# Altium footprint library SamacSys.PcbLib: 5 footprints
Each footprint in its own frame and in the unit in brackets; x right, y up, seen from the top. Pads: shape width x height; smd on the part's side, far side on the other; paste and mask are expansions set on the pad; w line width, h text height; cw(c..) or ccw(c..) is an arc to the next point about the centre after c.
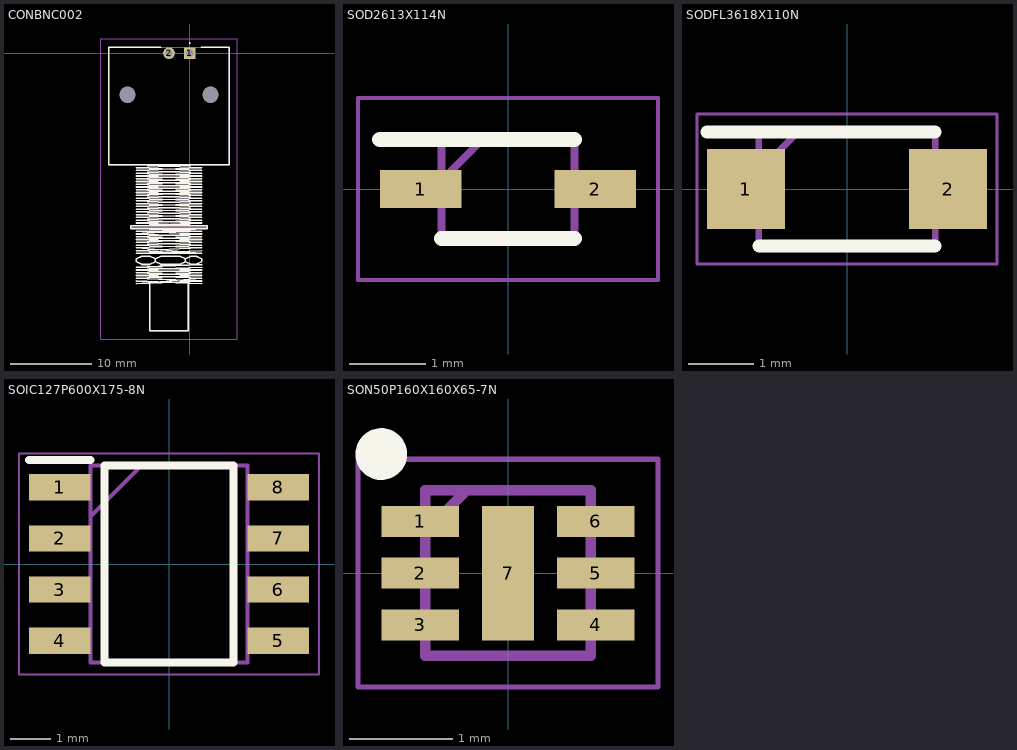
[diagram p0: the footprints below, top view; thin cyan lines are the x and y axes]

## CONBNC002 [mm]
pads (4):
  rect 1.446x1.446 hole 0.89: 1(0,0)
  round 1.446 hole 0.89: 2(-2.54,0)
  round 1 hole 2 unplated: MH1(-7.62,-5.08) MH2(2.54,-5.08)
Top Overlay:
  lines w0.1: 0,1.2 cw(c0,1.25) 0,1.3 cw(c0,1.25) 0,1.2
  lines w0.2: -6.54,-21.442 1.46,-21.78 -6.54,-21.78 1.46,-22.118 -6.54,-22.457 1.46,-22.795 -6.54,-23.133 1.46,-23.472 -6.54,-23.81 1.46,-24.487 ; -6.54,-13.66 1.46,-13.998 -6.54,-14.337 1.46,-14.675 -6.54,-15.013 1.46,-15.352 -6.54,-15.69 1.46,-16.028 -6.54,-16.367 1.46,-16.705 -6.54,-17.043 1.46,-17.382 -6.54,-17.72 1.46,-18.058 -6.54,-18.397 1.46,-18.735 -6.54,-19.073 1.46,-19.412 -6.54,-19.75 1.46,-20.088 -6.54,-20.427 1.46,-20.765 -6.207,-21.103 ; -4.873,-28.208 -4.873,-33.96 -0.207,-33.96 -0.207,-28.208 ; -3.54,0.74 -9.915,0.74 -9.915,-13.66 4.835,-13.66 4.835,0.74 1.393,0.74 ; 1.46,-26.178 -6.54,-26.517 1.46,-26.855 -6.54,-27.193 1.46,-27.532 -6.54,-28.208 1.46,-27.87 -6.54,-27.532 1.46,-27.193 -6.54,-26.855 1.46,-26.517 -6.54,-26.178 1.46,-25.84 ; 1.46,-24.148 -6.54,-24.487 1.46,-24.487 ; 1.46,-21.442 -6.54,-22.118 1.46,-22.457 -6.54,-22.795 1.46,-23.133 -6.54,-23.472 1.46,-23.81 -6.54,-24.148 1.46,-24.487 ; 1.46,-21.103 -6.54,-20.765 1.46,-20.427 -6.54,-20.088 1.46,-19.75 -6.54,-19.412 1.46,-19.073 -6.54,-18.735 1.46,-18.397 -6.54,-18.058 1.46,-17.72 -6.54,-17.382 1.46,-17.043 -6.54,-16.705 1.46,-16.367 -6.54,-16.028 1.46,-15.69 -6.54,-15.352 1.46,-15.013 -6.54,-14.675 1.46,-14.337 -6.54,-13.998 1.46,-13.66 ; -6.207,-21.103 -7.207,-21.103 -7.207,-21.442 2.127,-21.442 2.127,-21.103 -6.207,-21.103 ; -4.207,-25.502 -4.207,-25.163 ; -4.207,-25.502 -3.54,-25.84 -1.207,-25.84 -0.54,-25.502 ; -4.207,-25.502 -4.873,-25.84 -5.873,-25.84 -6.54,-25.502 -6.54,-25.163 -5.873,-24.825 -4.873,-24.825 -4.207,-25.163 ; -4.207,-25.163 -3.54,-24.825 -1.207,-24.825 -0.54,-25.163 ; -0.54,-25.502 -0.54,-25.163 ; -0.54,-25.502 0.127,-25.84 0.793,-25.84 1.46,-25.502 1.46,-25.163 0.793,-24.825 0.127,-24.825 -0.54,-25.163 ; -6.54,-27.87 1.46,-28.208 -6.54,-27.87
Mechanical 13:
  lines w0.1: -6.54,-13.66 1.46,-13.998 -6.54,-14.337 1.46,-14.675 -6.54,-15.013 1.46,-15.352 -6.54,-15.69 1.46,-16.028 -6.54,-16.367 1.46,-16.705 -6.54,-17.043 1.46,-17.382 -6.54,-17.72 1.46,-18.058 -6.54,-18.397 1.46,-18.735 -6.54,-19.073 1.46,-19.412 -6.54,-19.75 1.46,-20.088 -6.54,-20.427 1.46,-20.765 -6.207,-21.103 ; -4.873,-28.208 -4.873,-33.96 -0.207,-33.96 -0.207,-28.208 ; -3.54,-21.103 2.127,-21.103 2.127,-21.442 -7.207,-21.442 -7.207,-21.103 1.46,-21.103 -6.54,-20.765 1.46,-20.427 -6.54,-20.088 1.46,-19.75 -6.54,-19.412 1.46,-19.073 -6.54,-18.735 1.46,-18.397 -6.54,-18.058 1.46,-17.72 -6.54,-17.382 1.46,-17.043 -6.54,-16.705 1.46,-16.367 -6.54,-16.028 1.46,-15.69 -6.54,-15.352 1.46,-15.013 -6.54,-14.675 1.46,-14.337 -6.54,-13.998 1.46,-13.66 ; -9.915,-13.66 4.835,-13.66 4.835,0.74 -9.915,0.74 -9.915,-13.66
Mechanical 15:
  lines w0.1: -10.915,-34.96 5.835,-34.96 5.835,1.74 -10.915,1.74 -10.915,-34.96
3D body "CONBNC002.stp": height 14.73, standoff -4.4, extent -10.54,-34.47 5.36,0.73

## SOD2613X114N [mm]
pads (2):
  rect 1.075x0.5 smd: 1(-1.15,0) 2(1.15,0)
Top Overlay:
  lines w0.2: -1.688,0.65 0.875,0.65 ; -0.875,-0.65 0.875,-0.65
Mechanical 13:
  lines w0.1: -0.875,0.112 -0.338,0.65 ; -0.875,-0.65 0.875,-0.65 0.875,0.65 -0.875,0.65 -0.875,-0.65
Mechanical 15:
  lines w0.05: -1.975,-1.2 1.975,-1.2 1.975,1.2 -1.975,1.2 -1.975,-1.2
3D body "AQ4020-01FTG.stp": height 1.14, standoff 0, extent -1.298,-0.65 1.298,0.65

## SODFL3618X110N [mm]
pads (2):
  rect 1.2x1.22 smd: 1(-1.55,0) 2(1.55,0)
Top Overlay:
  lines w0.2: -2.15,0.875 1.35,0.875 ; -1.35,-0.875 1.35,-0.875
Mechanical 13:
  lines w0.1: -1.35,0.275 -0.75,0.875 ; -1.35,-0.875 -1.35,0.875 1.35,0.875 1.35,-0.875 -1.35,-0.875
Mechanical 15:
  lines w0.05: -2.3,-1.15 -2.3,1.15 2.3,1.15 2.3,-1.15 -2.3,-1.15
3D body "SMF5.0A-T13.stp": height 1.1, standoff 0, extent -1.825,-0.875 1.825,0.875

## SOIC127P600X175-8N [mm]
pads (8):
  rect 1.525x0.65 smd: 1(-2.712,1.905) 2(-2.712,0.635) 3(-2.712,-0.635) 4(-2.712,-1.905) 5(2.712,-1.905) 6(2.712,-0.635) 7(2.712,0.635) 8(2.712,1.905)
Top Overlay:
  lines w0.2: -3.475,2.58 -1.95,2.58 ; -1.6,-2.45 1.6,-2.45 1.6,2.45 -1.6,2.45 -1.6,-2.45
Mechanical 13:
  lines w0.1: -1.95,1.18 -0.68,2.45 ; -1.95,-2.45 1.95,-2.45 1.95,2.45 -1.95,2.45 -1.95,-2.45
Mechanical 15:
  lines w0.05: -3.725,-2.75 3.725,-2.75 3.725,2.75 -3.725,2.75 -3.725,-2.75
3D body "NE555DR.stp": height 1.75, standoff 0, extent -3,-2.45 3,2.45

## SON50P160X160X65-7N [mm]
pads (7):
  rect 0.75x0.3 smd: 1(-0.85,0.5) 2(-0.85,0) 3(-0.85,-0.5) 4(0.85,-0.5) 5(0.85,0) 6(0.85,0.5)
  rect 0.5x1.3 smd: 7(0,0)
Top Overlay:
  circle w0.25: c-1.225,1.15 r0.125
Mechanical 13:
  lines w0.1: -0.8,0.4 -0.4,0.8 ; -0.8,-0.8 -0.8,0.8 0.8,0.8 0.8,-0.8 -0.8,-0.8
Mechanical 15:
  lines w0.05: -1.45,-1.1 -1.45,1.1 1.45,1.1 1.45,-1.1 -1.45,-1.1
3D body "UCLAMP3306P.TCT.stp": height 0.65, standoff 0, extent -0.85,-0.8 0.85,0.8